# EAGLE library part MAX6675 (library SD-SolderSync-Library)
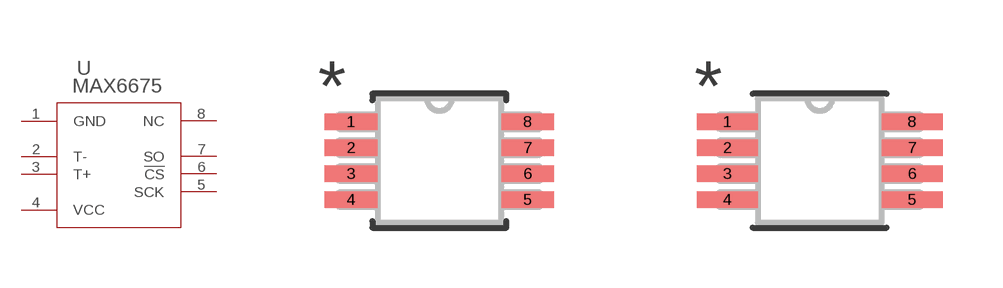
[diagram p8: symbol with the pads of _ISA_MXM; footprints _ISA_MXM, _ISA_MXM-M]

Designator prefix U

## MAX6675_ISA_MXM (COPYRIGHT: Copyright (C) 2025 Ultra Librarian. All rights reserved.; MANUFACTURER_PART_NUMBER: MAX6675ISA+; MFR_NAME: Analog Devices Inc)  [_ISA_MXM]
1  GND  pwr
2  T-  pas
3  T+  pas
4  VCC  pwr
5  SCK  in
6  !CS  in
7  SO  out
8  NC  nc

## MAX6675_ISA_MXM-M (COPYRIGHT: Copyright (C) 2025 Ultra Librarian. All rights reserved.; MANUFACTURER_PART_NUMBER: MAX6675ISA+; MFR_NAME: Analog Devices Inc)  [_ISA_MXM-M]
Pads as for _ISA_MXM

## MAX6675_ISA_MXM-L (COPYRIGHT: Copyright (C) 2025 Ultra Librarian. All rights reserved.; MANUFACTURER_PART_NUMBER: MAX6675ISA+; MFR_NAME: Analog Devices Inc)  [_ISA_MXM-L]
Pads as for _ISA_MXM

## Footprint _ISA_MXM (pad centres in mm)
smd 1.321 x 0.406: 1 -2.21,0.975; 2 -2.21,0.325; 3 -2.21,-0.325; 4 -2.21,-0.975; 5 2.21,-0.975; 6 2.21,-0.325; 7 2.21,0.325; 8 2.21,0.975

## Footprint _ISA_MXM-M (pad centres in mm)
smd 1.524 x 0.406: 1 -2.311,0.975; 2 -2.311,0.325; 3 -2.311,-0.325; 4 -2.311,-0.975; 5 2.311,-0.975; 6 2.311,-0.325; 7 2.311,0.325; 8 2.311,0.975

## Footprint _ISA_MXM-L (pad centres in mm)
smd 1.067 x 0.356: 1 -2.134,0.975; 2 -2.134,0.325; 3 -2.134,-0.325; 4 -2.134,-0.975; 5 2.134,-0.975; 6 2.134,-0.325; 7 2.134,0.325; 8 2.134,0.975